# EAGLE library part USD-SOCKET (library CEDT_JANUARY_2015_v6)
microSD Socket Push-push type uSD socket. Schematic element and footprint production proven. Spark Fun Electronics SKU : PRT-00127. tDoc lines correctly indicate media card edge positions when inserting (unlocked, locked, depressed).
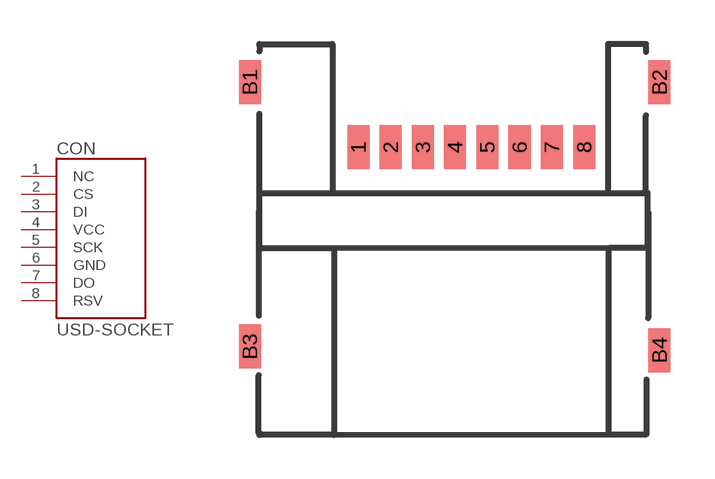
[diagram p35: symbol with the pads of USD-SOCKET-PP; footprint USD-SOCKET-PP]

Designator prefix CON

## USD-SOCKET  [USD-SOCKET-PP]
1  NC
2  CS
3  DI
4  VCC
5  SCK
6  GND
7  DO
8  RSV

## Footprint USD-SOCKET-PP (pad centres in mm)
smd 0.75 x 1.5: 1 -3.23,7.275; 2 -2.13,7.275; 3 -1.03,7.275; 4 0.07,7.275; 5 1.17,7.275; 6 2.27,7.275; 7 3.37,7.275; 8 4.47,7.275; B1 -6.93,9.489; B2 7.04,9.489; B3 -6.93,0.472; B4 7.04,0.345